# Altium schematic symbol library Video.SchLib: 38 symbols
Pins are listed as number, name and electrical type; pins without a type are passive.

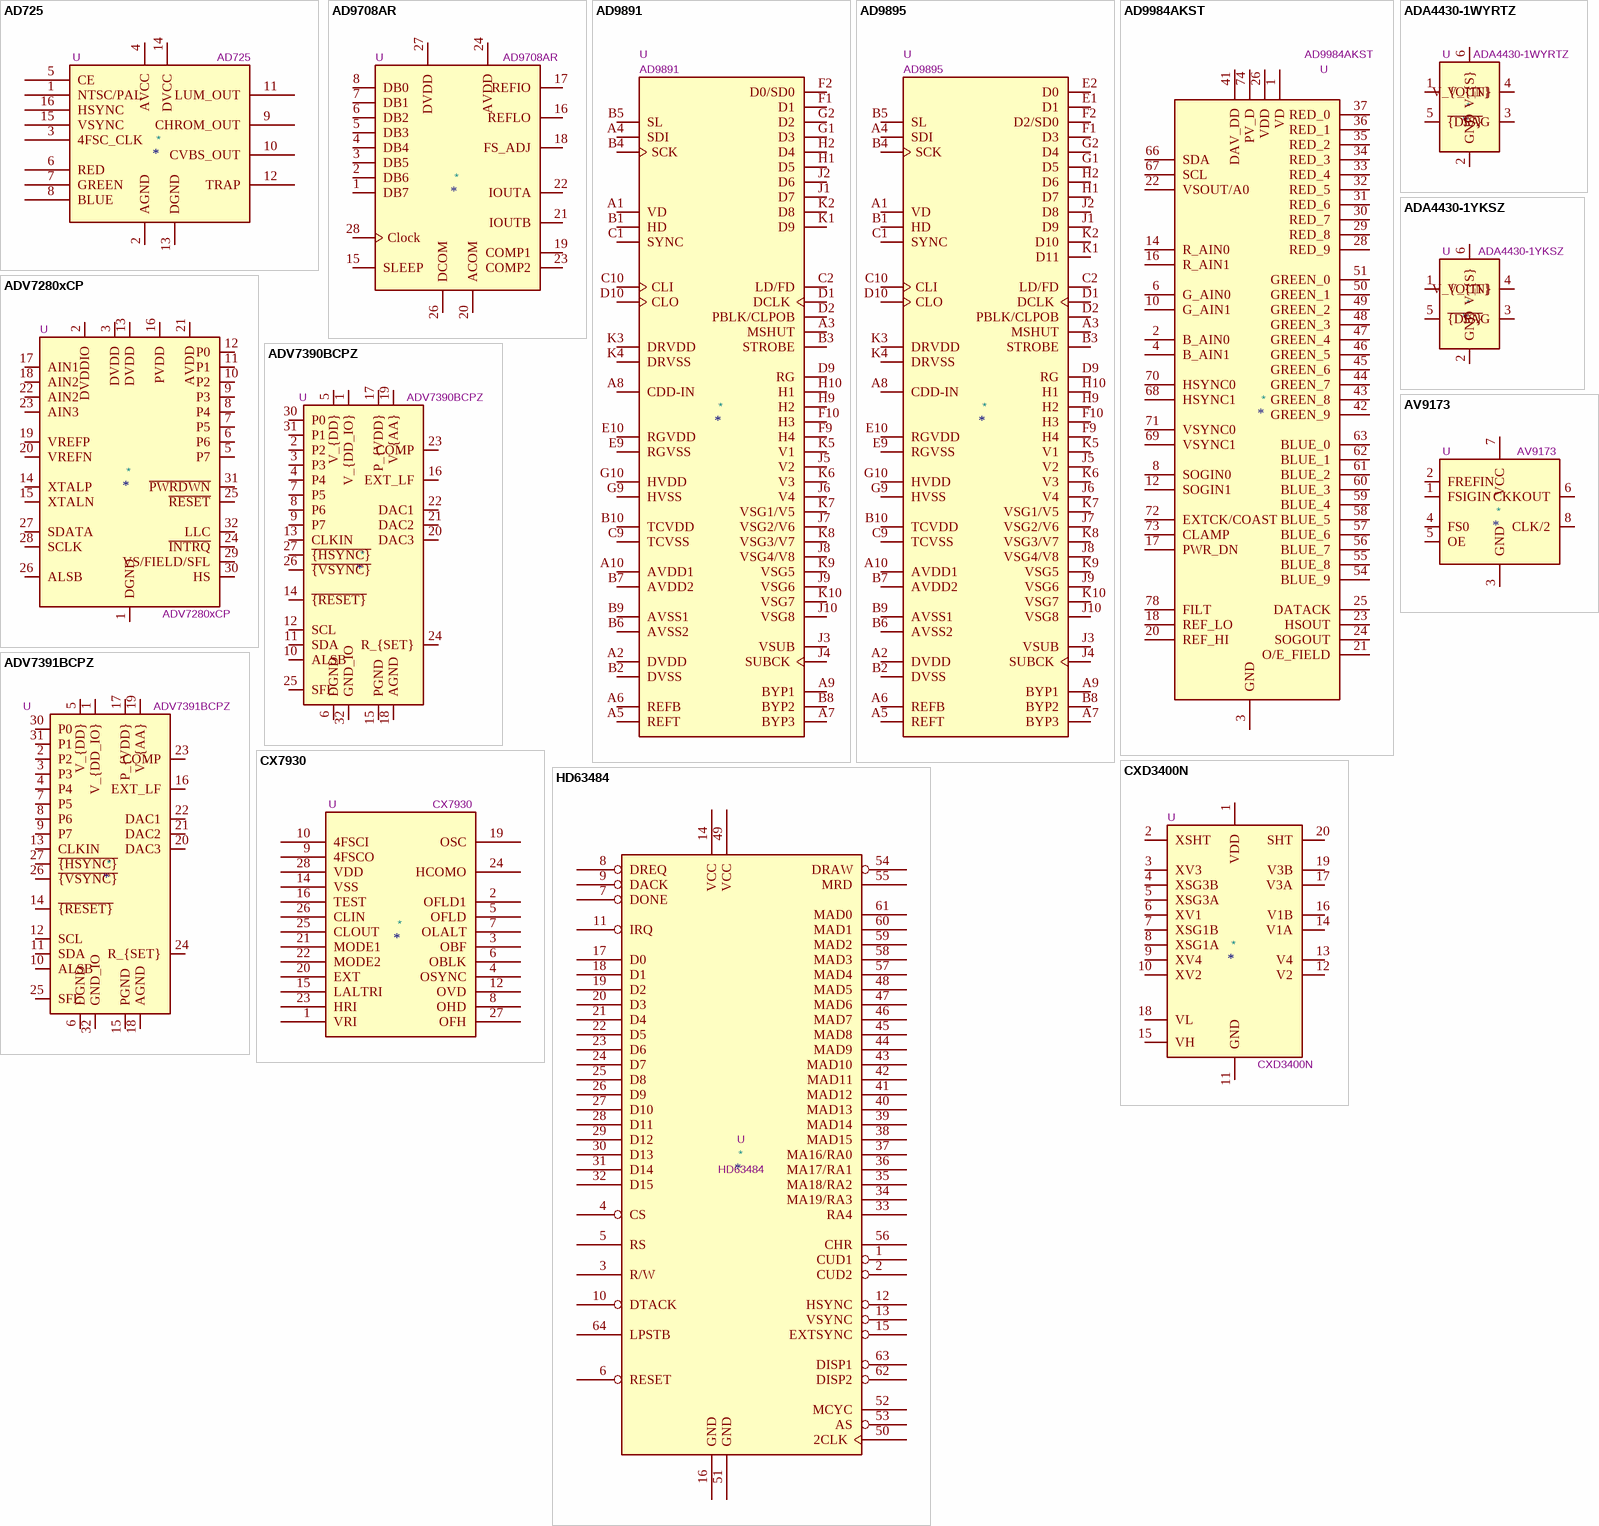
[diagram p0: symbols AD725 to HD63484]

## AD725
designator *  value AD725  Reference: U
ki_keywords: Video; ki_description: Low Cost RGB to NTSC/PAL Encoder with Luma Trap Port; ki_fp_filters: SOIC*7.5x10.3mm*P1.27mm*; Footprint: Package_SO:SOIC-16W_7.5x10.3mm_P1.27mm; Datasheet: https://www.analog.com/media/en/technical-documentation/data-sheets/AD725.pdf
pins: 1 NTSC/PAL, 2 AGND, 3 4FSC_CLK, 4 AVCC, 5 CE, 6 RED, 7 GREEN, 8 BLUE, 9 CHROM_OUT, 10 CVBS_OUT, 11 LUM_OUT, 12 TRAP, 13 DGND, 14 DVCC, 15 VSYNC, 16 HSYNC

## AD9708AR
designator *  value AD9708AR  Reference: U
ki_keywords: DAC CNA VIDEO; ki_description: Video DAC (32 MHz), SOIC/TSSOP-28; Datasheet: https://www.analog.com/media/en/technical-documentation/data-sheets/AD9708.pdf
pins: 1 DB7, 2 DB6, 3 DB5, 4 DB4, 5 DB3, 6 DB2, 7 DB1, 8 DB0, 15 SLEEP, 16 REFLO, 17 REFIO, 18 FS_ADJ, 19 COMP1, 20 ACOM, 21 IOUTB, 22 IOUTA, 23 COMP2, 24 AVDD, 26 DCOM, 27 DVDD, 28 Clock

## AD9891
designator *  value AD9891  Reference: U
ki_keywords: CCD Signal Processor; ki_description: CCD Signal Processor, 20MHz 10bits, CSPBGA-64; ki_fp_filters: BGA*9.0x9.0mm*Layout10x10*P0.8mm*; Footprint: Package_BGA:BGA-64_9.0x9.0mm_Layout10x10_P0.8mm; Datasheet: https://www.analog.com/static/imported-files/data_sheets/AD9891_9895.pdf
pins: A1 VD, A2 DVDD, A3 MSHUT, A4 SDI, A5 REFT, A6 REFB, A7 BYP3, A8 CDD-IN, A9 BYP1, A10 AVDD1, B1 HD, B2 DVSS, B3 STROBE, B4 SCK, B5 SL, B6 AVSS2, B7 AVDD2, B8 BYP2, B9 AVSS1, B10 TCVDD, C1 SYNC, C2 LD/FD, C9 TCVSS, C10 CLI, D1 DCLK, D2 PBLK/CLPOB, D9 RG, D10 CLO, E9 RGVSS, E10 RGVDD, F1 D1, F2 D0/SD0, F9 H4, F10 H3, G1 D3, G2 D2, G9 HVSS, G10 HVDD, H1 D5, H2 D4, H9 H2, H10 H1, J1 D7, J2 D6, J3 VSUB, J4 SUBCK, J5 V2, J6 V4, J7 VSG2/V6, J8 VSG4/V8, J9 VSG6, J10 VSG8, K1 D9, K2 D8, K3 DRVDD, K4 DRVSS, K5 V1, K6 V3, K7 VSG1/V5, K8 VSG3/V7, K9 VSG5, K10 VSG7

## AD9895
designator *  value AD9895  Reference: U
ki_keywords: CCD Signal Processor; ki_description: CCD Signal Processor, 30MHz 12bits, CSPBGA-64; ki_fp_filters: BGA*9.0x9.0mm*Layout10x10*P0.8mm*; Footprint: Package_BGA:BGA-64_9.0x9.0mm_Layout10x10_P0.8mm; Datasheet: https://www.analog.com/static/imported-files/data_sheets/AD9891_9895.pdf
pins: A1 VD, A2 DVDD, A3 MSHUT, A4 SDI, A5 REFT, A6 REFB, A7 BYP3, A8 CDD-IN, A9 BYP1, A10 AVDD1, B1 HD, B2 DVSS, B3 STROBE, B4 SCK, B5 SL, B6 AVSS2, B7 AVDD2, B8 BYP2, B9 AVSS1, B10 TCVDD, C1 SYNC, C2 LD/FD, C9 TCVSS, C10 CLI, D1 DCLK, D2 PBLK/CLPOB, D9 RG, D10 CLO, E1 D1, E2 D0, E9 RGVSS, E10 RGVDD, F1 D3, F2 D2/SD0, F9 H4, F10 H3, G1 D5, G2 D4, G9 HVSS, G10 HVDD, H1 D7, H2 D6, H9 H2, H10 H1, J1 D9, J2 D8, J3 VSUB, J4 SUBCK, J5 V2, J6 V4, J7 VSG2/V6, J8 VSG4/V8, J9 VSG6, J10 VSG8, K1 D11, K2 D10, K3 DRVDD, K4 DRVSS, K5 V1, K6 V3, K7 VSG1/V5, K8 VSG3/V7, K9 VSG5, K10 VSG7

## AD9984AKST
designator *  value AD9984AKST  Reference: U
ki_keywords: 10bit video display interface; ki_description: High Performance 10-Bit Display Interface 140/170MSPS LQFP; ki_fp_filters: LQFP*; Footprint: Package_QFP:LQFP-80_14x14mm_P0.65mm; Datasheet: http://www.analog.com/media/en/technical-documentation/data-sheets/AD9984A.pdf
pins: 1 VD, 2 B_AIN0, 3 GND, 4 B_AIN1, 5 VD hidden, 6 G_AIN0, 7 GND hidden, 8 SOGIN0, 9 VD hidden, 10 G_AIN1, 11 GND hidden, 12 SOGIN1, 13 VD hidden, 14 R_AIN0, 15 GND hidden, 16 R_AIN1, 17 PWR_DN, 18 REF_LO, 19 NC hidden, 20 REF_HI, 21 O/E_FIELD, 22 VSOUT/A0, 23 HSOUT, 24 SOGOUT, 25 DATACK, 26 VDD, 27 GND hidden, 28 RED_9, 29 RED_8, 30 RED_7, 31 RED_6, 32 RED_5, 33 RED_4, 34 RED_3, 35 RED_2, 36 RED_1, 37 RED_0, 38 VDD hidden, 39 GND hidden, 40 GND hidden, 41 DAV_DD, 42 GREEN_9, 43 GREEN_8, 44 GREEN_7, 45 GREEN_6, 46 GREEN_5, 47 GREEN_4, 48 GREEN_3, 49 GREEN_2, 50 GREEN_1, 51 GREEN_0, 52 VDD hidden, 53 GND hidden, 54 BLUE_9, 55 BLUE_8, 56 BLUE_7, 57 BLUE_6, 58 BLUE_5, 59 BLUE_4, 60 BLUE_3, 61 BLUE_2, 62 BLUE_1, 63 BLUE_0, 64 VDD hidden, 65 GND hidden, 66 SDA, 67 SCL, 68 HSYNC1, 69 VSYNC1, 70 HSYNC0, 71 VSYNC0, 72 EXTCK/COAST, 73 CLAMP, 74 PV_D, 75 GND hidden, 76 PV_D hidden, 77 GND hidden, 78 FILT, 79 PV_D hidden, 80 GND hidden
1 alternate drawing of the same symbol

## ADA4430-1WYRTZ
designator *  value ADA4430-1WYRTZ  Reference: U
ki_keywords: Video Filter; ki_description: Ultralow Power, Video Filter, Power-Down, SOT-23; ki_fp_filters: SOT?23*; Footprint: Package_TO_SOT_SMD:SOT-23-6; Datasheet: https://www.analog.com/media/en/technical-documentation/data-sheets/ADA4430-1.pdf
pins: 1 V_{IN}, 2 GND, 3 SAG, 4 V_{OUT}, 5 ~{{DIS}}, 6 V_{S}

## ADA4430-1YKSZ
designator *  value ADA4430-1YKSZ  Reference: U
ki_keywords: Video Filter; ki_description: Ultralow Power, Video Filter, Power-Down, SOT-363; ki_fp_filters: SOT?363*; Footprint: Package_TO_SOT_SMD:SOT-363_SC-70-6; Datasheet: https://www.analog.com/media/en/technical-documentation/data-sheets/ADA4430-1.pdf
pins: 1 V_{IN}, 2 GND, 3 SAG, 4 V_{OUT}, 5 ~{{DIS}}, 6 V_{S}

## ADV7280xCP
designator *  value ADV7280xCP  Reference: U
ki_keywords: video decoder; ki_description: 10-Bit, 4x Oversampled SDTV Video Decoder with Deinterlacer, LFCSP-32; ki_fp_filters: LFCSP*1EP*5x5mm*P0.5mm*; Footprint: Package_CSP:LFCSP-32-1EP_5x5mm_P0.5mm_EP3.6x3.6mm; Datasheet: https://www.analog.com/media/en/technical-documentation/data-sheets/ADV7280.PDF
pins: 1 DGND, 2 DVDDIO, 3 DVDD, 4 DGND hidden, 5 P7, 6 P6, 7 P5, 8 P4, 9 P3, 10 P2, 11 P1, 12 P0, 13 DVDD, 14 XTALP, 15 XTALN, 16 PVDD, 17 AIN1, 18 AIN2, 19 VREFP, 20 VREFN, 21 AVDD, 22 AIN2, 23 AIN3, 24 ~{INTRQ}, 25 ~{RESET}, 26 ALSB, 27 SDATA, 28 SCLK, 29 VS/FIELD/SFL, 30 HS, 31 ~{PWRDWN}, 32 LLC, 33 DGND hidden

## ADV7390BCPZ
designator *  value ADV7390BCPZ  Reference: U
ki_keywords: Video Encoder; ki_description: 10-Bit SD/HD Video Encoder, Macrovision Antitaping, LFCSP-32; ki_fp_filters: LFCSP*1EP*5x5mm*P0.5mm*; Footprint: Package_CSP:LFCSP-32-1EP_5x5mm_P0.5mm_EP3.1x3.1mm; Datasheet: https://www.analog.com/media/en/technical-documentation/data-sheets/ADV7390_7391_7392_7393.pdf
pins: 1 V_{DD_IO}, 2 P2, 3 P3, 4 P4, 5 V_{DD}, 6 DGND, 7 P5, 8 P6, 9 P7, 10 ALSB, 11 SDA, 12 SCL, 13 CLKIN, 14 ~{{RESET}}, 15 PGND, 16 EXT_LF, 17 P_{VDD}, 18 AGND, 19 V_{AA}, 20 DAC3, 21 DAC2, 22 DAC1, 23 COMP, 24 R_{SET}, 25 SFL, 26 ~{{VSYNC}}, 27 ~{{HSYNC}}, 28 V_{DD} hidden, 29 DGND hidden, 30 P0, 31 P1, 32 GND_IO, 33 AGND hidden

## ADV7391BCPZ
designator *  value ADV7391BCPZ  Reference: U
ki_keywords: Video Encoder; ki_description: 10-Bit SD/HD Video Encoder, LFCSP-32; ki_fp_filters: LFCSP*1EP*5x5mm*P0.5mm*; Footprint: Package_CSP:LFCSP-32-1EP_5x5mm_P0.5mm_EP3.1x3.1mm; Datasheet: https://www.analog.com/media/en/technical-documentation/data-sheets/ADV7390_7391_7392_7393.pdf
pins: 1 V_{DD_IO}, 2 P2, 3 P3, 4 P4, 5 V_{DD}, 6 DGND, 7 P5, 8 P6, 9 P7, 10 ALSB, 11 SDA, 12 SCL, 13 CLKIN, 14 ~{{RESET}}, 15 PGND, 16 EXT_LF, 17 P_{VDD}, 18 AGND, 19 V_{AA}, 20 DAC3, 21 DAC2, 22 DAC1, 23 COMP, 24 R_{SET}, 25 SFL, 26 ~{{VSYNC}}, 27 ~{{HSYNC}}, 28 V_{DD} hidden, 29 DGND hidden, 30 P0, 31 P1, 32 GND_IO, 33 AGND hidden

## AV9173
designator *  value AV9173  Reference: U
ki_keywords: video pll; ki_description: Video Genlock PLL; Datasheet: http://www.ibselectronics.com/ibsstore/datasheet/Others/AV9173-01CN08.pdf
pins: 1 FSIGIN, 2 FREFIN, 3 GND, 4 FS0, 5 OE, 6 CKKOUT, 7 VCC, 8 CLK/2

## CX7930
designator *  value CX7930  Reference: U
pins: 1 VRI, 2 OFLD1, 3 OBF, 4 OSYNC, 5 OFLD, 6 OBLK, 7 OLALT, 8 OHD, 9 4FSCO, 10 4FSCI, 12 OVD, 14 VSS, 15 LALTRI, 16 TEST, 19 OSC, 20 EXT, 21 MODE1, 22 MODE2, 23 HRI, 24 HCOMO, 25 CLOUT, 26 CLIN, 27 OFH, 28 VDD

## CXD3400N
designator *  value CXD3400N  Reference: U
ki_keywords: CCD Clock Driver; ki_description: 6-channel Vertical Clock Driver for CCD Image Sensor, SSOP-20; ki_fp_filters: SSOP*; Datasheet: video\cxd3400n.pdf
pins: 1 VDD, 2 XSHT, 3 XV3, 4 XSG3B, 5 XSG3A, 6 XV1, 7 XSG1B, 8 XSG1A, 9 XV4, 10 XV2, 11 GND, 12 V2, 13 V4, 14 V1A, 15 VH, 16 V1B, 17 V3A, 18 VL, 19 V3B, 20 SHT

## HD63484
designator *  value HD63484  Reference: U
pins: 1 CUD1, 2 CUD2, 3 R/W, 4 CS, 5 RS, 6 RESET, 7 DONE, 8 DREQ, 9 DACK, 10 DTACK, 11 IRQ, 12 HSYNC, 13 VSYNC, 14 VCC, 15 EXTSYNC, 16 GND, 17 D0, 18 D1, 19 D2, 20 D3, 21 D4, 22 D5, 23 D6, 24 D7, 25 D8, 26 D9, 27 D10, 28 D11, 29 D12, 30 D13, 31 D14, 32 D15, 33 RA4, 34 MA19/RA3, 35 MA18/RA2, 36 MA17/RA1, 37 MA16/RA0, 38 MAD15, 39 MAD14, 40 MAD13, 41 MAD12, 42 MAD11, 43 MAD10, 44 MAD9, 45 MAD8, 46 MAD7, 47 MAD6, 48 MAD5, 49 VCC, 50 2CLK, 51 GND, 52 MCYC, 53 AS, 54 DRAW, 55 MRD, 56 CHR, 57 MAD4, 58 MAD3, 59 MAD2, 60 MAD1, 61 MAD0, 62 DISP2, 63 DISP1, 64 LPSTB

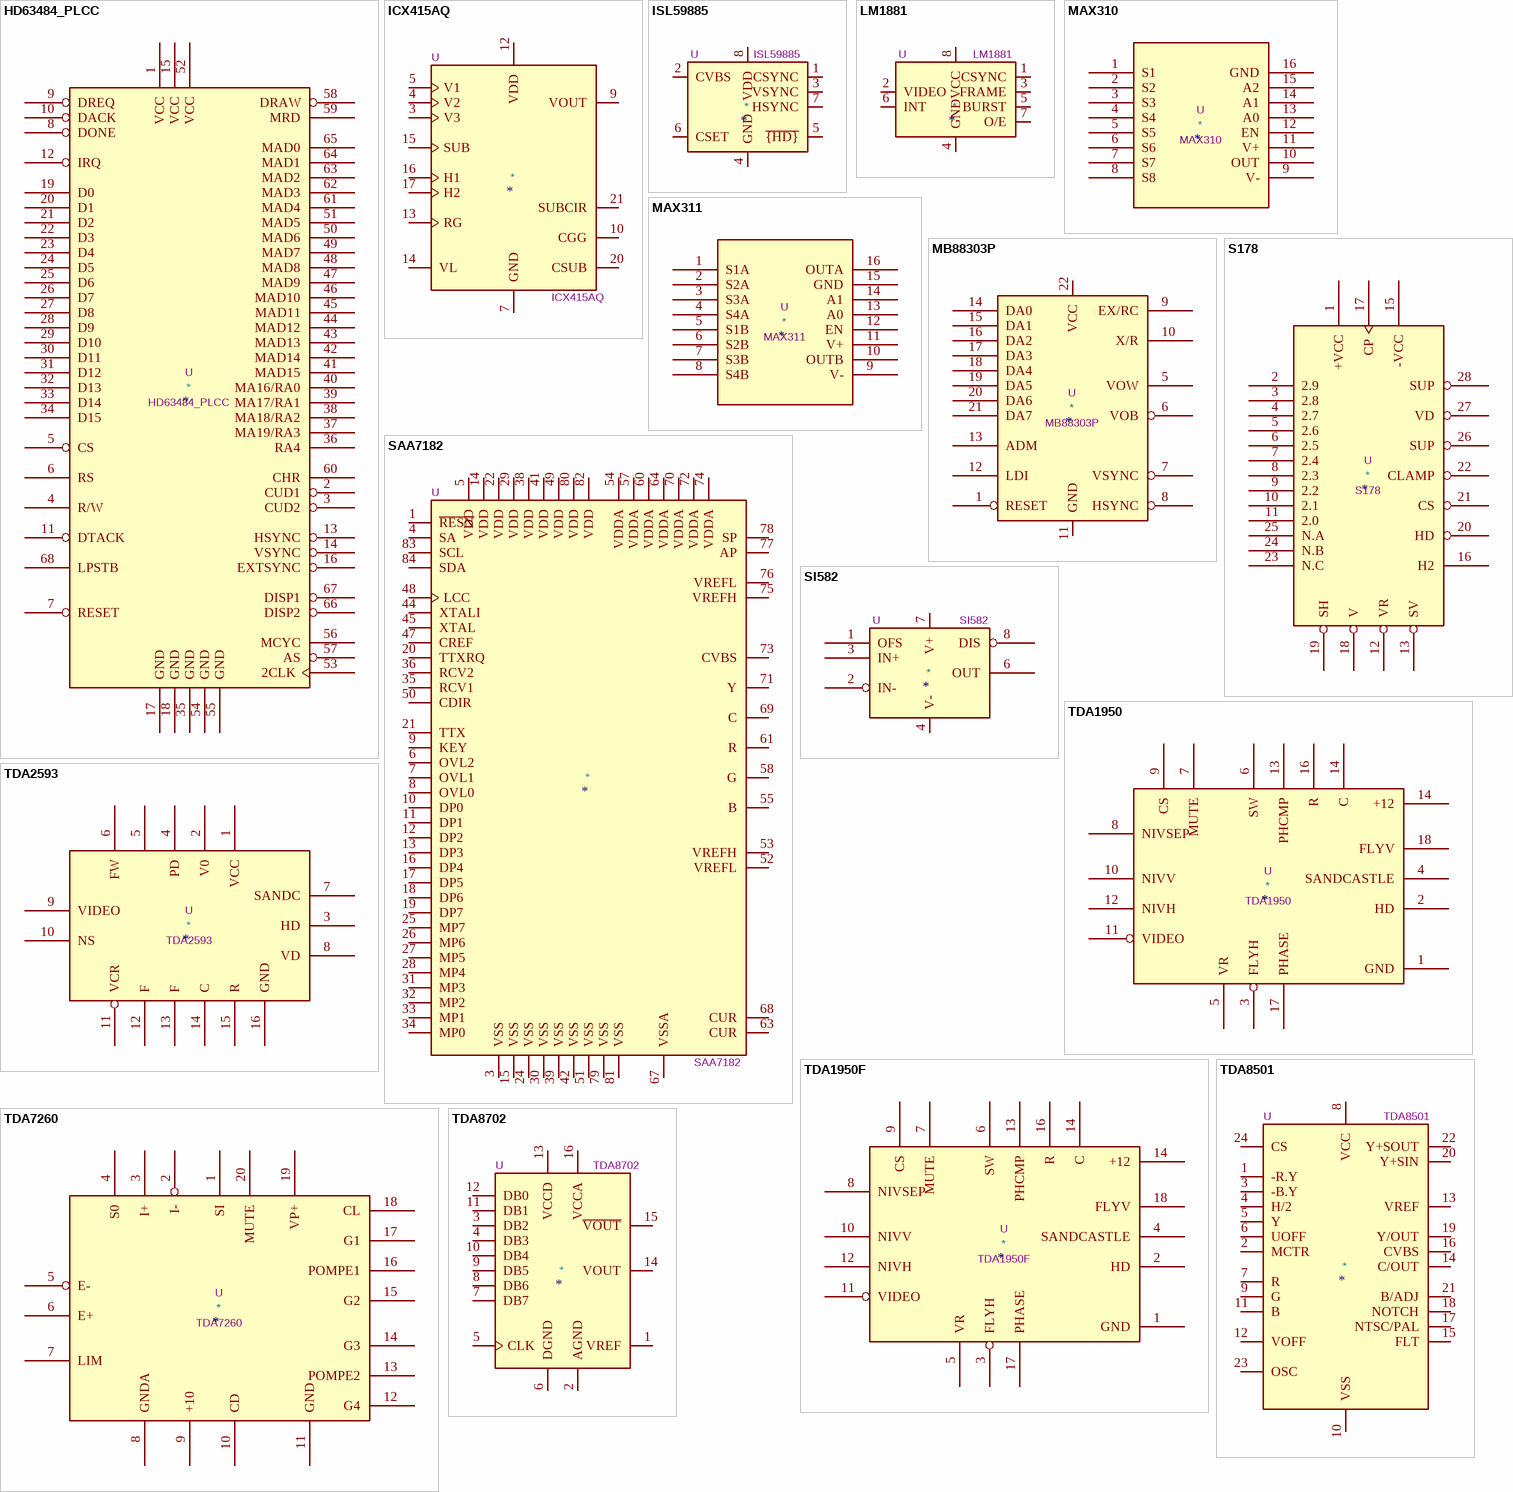
[diagram p1: symbols HD63484_PLCC to TDA8702]

## HD63484_PLCC
designator *  value HD63484_PLCC  Reference: U
pins: 1 VCC, 2 CUD1, 3 CUD2, 4 R/W, 5 CS, 6 RS, 7 RESET, 8 DONE, 9 DREQ, 10 DACK, 11 DTACK, 12 IRQ, 13 HSYNC, 14 VSYNC, 15 VCC, 16 EXTSYNC, 17 GND, 18 GND, 19 D0, 20 D1, 21 D2, 22 D3, 23 D4, 24 D5, 25 D6, 26 D7, 27 D8, 28 D9, 29 D10, 30 D11, 31 D12, 32 D13, 33 D14, 34 D15, 35 GND, 36 RA4, 37 MA19/RA3, 38 MA18/RA2, 39 MA17/RA1, 40 MA16/RA0, 41 MAD15, 42 MAD14, 43 MAD13, 44 MAD12, 45 MAD11, 46 MAD10, 47 MAD9, 48 MAD8, 49 MAD7, 50 MAD6, 51 MAD5, 52 VCC, 53 2CLK, 54 GND, 55 GND, 56 MCYC, 57 AS, 58 DRAW, 59 MRD, 60 CHR, 61 MAD4, 62 MAD3, 63 MAD2, 64 MAD1, 65 MAD0, 66 DISP2, 67 DISP1, 68 LPSTB

## ICX415AQ
designator *  value ICX415AQ  Reference: U
ki_keywords: CCD B/W Image Sensor; ki_description: Diagonal 8mm B/W Progressive Scan CCD Image Sensor with Square Pixel, CERDIP-22
pins: 3 V3, 4 V2, 5 V1, 7 GND, 9 VOUT, 10 CGG, 12 VDD, 13 RG, 14 VL, 15 SUB, 16 H1, 17 H2, 20 CSUB, 21 SUBCIR

## ISL59885
designator *  value ISL59885  Reference: U
ki_keywords: video sync separator csync hsync vsync; ki_description: Sync Separator for HD and SD Video, SOIC-8; ki_fp_filters: SOIC*3.9x4.9mm*P1.27mm*; Footprint: Package_SO:SOIC-8_3.9x4.9mm_P1.27mm; Datasheet: https://www.renesas.com/us/en/document/dst/isl59885-datasheet?r=533081
pins: 1 CSYNC, 2 CVBS, 3 VSYNC, 4 GND, 5 ~{{HD}}, 6 CSET, 7 HSYNC, 8 VDD

## LM1881
designator *  value LM1881  Reference: U
pins: 1 CSYNC, 2 VIDEO, 3 FRAME, 4 GND, 5 BURST, 6 INT, 7 O/E, 8 VCC

## MAX310
designator *  value MAX310  Reference: U
ki_keywords: video rf; ki_description: 8-Channel CMOS RF Video Multiplexer; Datasheet: https://datasheets.maximintegrated.com/en/ds/MAX310-MAX311.pdf
pins: 1 S1, 2 S2, 3 S3, 4 S4, 5 S5, 6 S6, 7 S7, 8 S8, 9 V-, 10 OUT, 11 V+, 12 EN, 13 A0, 14 A1, 15 A2, 16 GND

## MAX311
designator *  value MAX311  Reference: U
ki_keywords: video rf; ki_description: 8-Channel CMOS RF Video Multiplexer; Datasheet: https://datasheets.maximintegrated.com/en/ds/MAX310-MAX311.pdf
pins: 1 S1A, 2 S2A, 3 S3A, 4 S4A, 5 S1B, 6 S2B, 7 S3B, 8 S4B, 9 V-, 10 OUTB, 11 V+, 12 EN, 13 A0, 14 A1, 15 GND, 16 OUTA

## MB88303P
designator *  value MB88303P  Reference: U
pins: 1 RESET, 5 VOW, 6 VOB, 7 VSYNC, 8 HSYNC, 9 EX/RC, 10 X/R, 11 GND, 12 LDI, 13 ADM, 14 DA0, 15 DA1, 16 DA2, 17 DA3, 18 DA4, 19 DA5, 20 DA6, 21 DA7, 22 VCC

## S178
designator *  value S178  Reference: U
pins: 1 +VCC, 2 2.9, 3 2.8, 4 2.7, 5 2.6, 6 2.5, 7 2.4, 8 2.3, 9 2.2, 10 2.1, 11 2.0, 12 VR, 13 SV, 15 -VCC, 16 H2, 17 CP, 18 V, 19 SH, 20 HD, 21 CS, 22 CLAMP, 23 N.C, 24 N.B, 25 N.A, 26 SUP, 27 VD, 28 SUP

## SAA7182
designator *  value SAA7182  Reference: U
ki_keywords: Video Encoder; ki_description: Digital Video Encoder, Obsolete; Datasheet: http://rcl-radio.ru/wp-content/uploads/2014/11/SAA7182.pdf
pins: 1 ~{RESN}, 3 VSS, 4 SA, 5 VDD, 6 OVL2, 7 OVL1, 8 OVL0, 9 KEY, 10 DP0, 11 DP1, 12 DP2, 13 DP3, 14 VDD, 15 VSS, 16 DP4, 17 DP5, 18 DP6, 19 DP7, 20 TTXRQ, 21 TTX, 22 VDD, 24 VSS, 25 MP7, 26 MP6, 27 MP5, 28 MP4, 29 VDD, 30 VSS, 31 MP3, 32 MP2, 33 MP1, 34 MP0, 35 RCV1, 36 RCV2, 38 VDD, 39 VSS, 41 VDD, 42 VSS, 44 XTALI, 45 XTAL, 47 CREF, 48 LCC, 49 VDD, 50 CDIR, 51 VSS, 52 VREFL, 53 VREFH, 54 VDDA, 55 B, 57 VDDA, 58 G, 60 VDDA, 61 R, 63 CUR, 64 VDDA, 67 VSSA, 68 CUR, 69 C, 70 VDDA, 71 Y, 72 VDDA, 73 CVBS, 74 VDDA, 75 VREFH, 76 VREFL, 77 AP, 78 SP, 79 VSS, 80 VDD, 81 VSS, 82 VDD, 83 SCL, 84 SDA

## SI582
designator *  value SI582  Reference: U
pins: 1 OFS, 2 IN-, 3 IN+, 4 V-, 6 OUT, 7 V+, 8 DIS

## TDA1950
designator *  value TDA1950  Reference: U
pins: 1 GND, 2 HD, 3 FLYH, 4 SANDCASTLE, 5 VR, 6 SW, 7 MUTE, 8 NIVSEP, 9 CS, 10 NIVV, 11 VIDEO, 12 NIVH, 13 PHCMP, 14 +12, 14 C, 16 R, 17 PHASE, 18 FLYV

## TDA1950F
designator *  value TDA1950F  Reference: U
pins: 1 GND, 2 HD, 3 FLYH, 4 SANDCASTLE, 5 VR, 6 SW, 7 MUTE, 8 NIVSEP, 9 CS, 10 NIVV, 11 VIDEO, 12 NIVH, 13 PHCMP, 14 +12, 14 C, 16 R, 17 PHASE, 18 FLYV

## TDA2593
designator *  value TDA2593  Reference: U
pins: 1 VCC, 2 V0, 3 HD, 4 PD, 5, 6 FW, 7 SANDC, 8 VD, 9 VIDEO, 10 NS, 11 VCR, 12 F, 13 F, 14 C, 15 R, 16 GND

## TDA7260
designator *  value TDA7260  Reference: U
pins: 1 SI, 2 I-, 3 I+, 4 S0, 5 E-, 6 E+, 7 LIM, 8 GNDA, 9 +10, 10 CD, 11 GND, 12 G4, 13 POMPE2, 14 G3, 15 G2, 16 POMPE1, 17 G1, 18 CL, 19 VP+, 20 MUTE

## TDA8501
designator *  value TDA8501  Reference: U
ki_keywords: Video Encoder; ki_description: PAL/NTSC Encoder, RGB or Y/Y-R/Y-B Inputs, DIP/SOIC-20; ki_fp_filters: DIP* PDIP* SOIC*; Datasheet: https://assets.nexperia.com/documents/data-sheet/TDA8501.pdf
pins: 1 -R.Y, 2 MCTR, 3 -B.Y, 4 H/2, 5 Y, 6 UOFF, 7 R, 8 VCC, 9 G, 10 VSS, 11 B, 12 VOFF, 13 VREF, 14 C/OUT, 15 FLT, 16 CVBS, 17 NTSC/PAL, 18 NOTCH, 19 Y/OUT, 20 Y+SIN, 21 B/ADJ, 22 Y+SOUT, 23 OSC, 24 CS

## TDA8702
designator *  value TDA8702  Reference: U
ki_keywords: DAC CNA VIDEO; ki_description: 8bit Video DAC (32 MHz), DIP-16; ki_fp_filters: DIP* PDIP* SO* SOIC*; Datasheet: philips/tda8702.pdf
pins: 1 VREF, 2 AGND, 3 DB2, 4 DB3, 5 CLK, 6 DGND, 7 DB7, 8 DB6, 9 DB5, 10 DB4, 11 DB1, 12 DB0, 13 VCCD, 14 VOUT, 15 ~{VOUT}, 16 VCCA

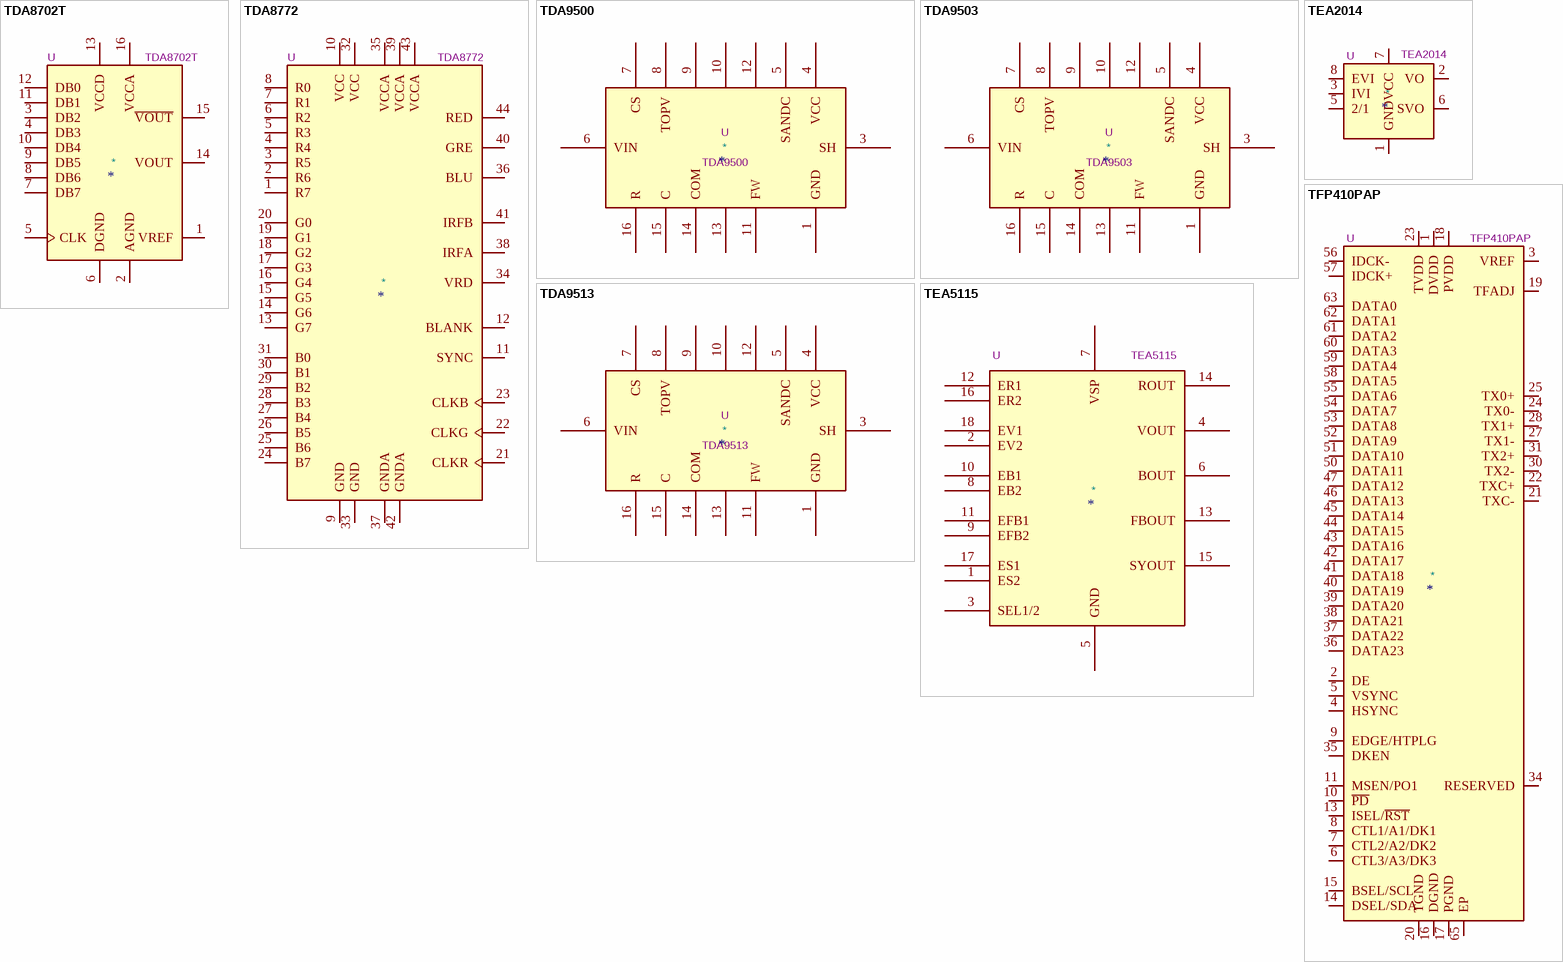
[diagram p2: symbols TDA8702T to TFP410PAP]

## TDA8702T
designator *  value TDA8702T  Reference: U
ki_keywords: DAC CNA VIDEO; ki_description: 8bit Video DAC (32 MHz), SOIC-16; ki_fp_filters: DIP* PDIP* SO* SOIC*; Datasheet: philips/tda8702.pdf
pins: 1 VREF, 2 AGND, 3 DB2, 4 DB3, 5 CLK, 6 DGND, 7 DB7, 8 DB6, 9 DB5, 10 DB4, 11 DB1, 12 DB0, 13 VCCD, 14 VOUT, 15 ~{VOUT}, 16 VCCA

## TDA8772
designator *  value TDA8772  Reference: U
ki_keywords: Video DAC Colour 8bit; ki_description: Triple 8bit Video DAC, QFP-44; ki_fp_filters: QFP*; Datasheet: http://www.pa0qy.nl/pdf/TDA8772.PDF
pins: 1 R7, 2 R6, 3 R5, 4 R4, 5 R3, 6 R2, 7 R1, 8 R0, 9 GND, 10 VCC, 11 SYNC, 12 BLANK, 13 G7, 14 G6, 15 G5, 16 G4, 17 G3, 18 G2, 19 G1, 20 G0, 21 CLKR, 22 CLKG, 23 CLKB, 24 B7, 25 B6, 26 B5, 27 B4, 28 B3, 29 B2, 30 B1, 31 B0, 32 VCC, 33 GND, 34 VRD, 35 VCCA, 36 BLU, 37 GNDA, 38 IRFA, 39 VCCA, 40 GRE, 41 IRFB, 42 GNDA, 43 VCCA, 44 RED

## TDA9500
designator *  value TDA9500  Reference: U
pins: 1 GND, 3 SH, 4 VCC, 5 SANDC, 6 VIN, 7 CS, 8 TOPV, 9, 10, 11 FW, 12, 13, 14 COM, 15 C, 16 R

## TDA9503
designator *  value TDA9503  Reference: U
pins: 1 GND, 3 SH, 4 VCC, 5 SANDC, 6 VIN, 7 CS, 8 TOPV, 9, 10, 11 FW, 12, 13, 14 COM, 15 C, 16 R

## TDA9513
designator *  value TDA9513  Reference: U
pins: 1 GND, 3 SH, 4 VCC, 5 SANDC, 6 VIN, 7 CS, 8 TOPV, 9, 10, 11 FW, 12, 13, 14 COM, 15 C, 16 R

## TEA2014
designator *  value TEA2014  Reference: U
ki_keywords: Video switching circuite for TV; ki_description: Video switching circuite for TV, DIP-8; ki_fp_filters: DIP*W7.62mm*; Footprint: Package_DIP:DIP-8_W7.62mm; Datasheet: http://pdf1.alldatasheet.com/datasheet-pdf/view/123244/STMICROELECTRONICS/TEA2014.html
pins: 1 GND, 2 VO, 3 IVI, 4 NC hidden, 5 2/1, 6 SVO, 7 VCC, 8 EVI

## TEA5115
designator *  value TEA5115  Reference: U
pins: 1 ES2, 2 EV2, 3 SEL1/2, 4 VOUT, 5 GND, 6 BOUT, 7 VSP, 8 EB2, 9 EFB2, 10 EB1, 11 EFB1, 12 ER1, 13 FBOUT, 14 ROUT, 15 SYOUT, 16 ER2, 17 ES1, 18 EV1

## TFP410PAP
designator *  value TFP410PAP  Reference: U
ki_keywords: DVI Encoder Driver; ki_description: Digital Visual Interface Compliant PanelBus Digital Transmitter, HTQFP-64; ki_fp_filters: HTQFP*1EP*10x10mm*P0.5mm*; Footprint: Package_QFP:HTQFP-64-1EP_10x10mm_P0.5mm_EP8x8mm_Mask4.4x4.4mm_ThermalVias; Datasheet: http://www.ti.com/lit/ds/symlink/tfp410.pdf
pins: 1 DVDD, 2 DE, 3 VREF, 4 HSYNC, 5 VSYNC, 6 CTL3/A3/DK3, 7 CTL2/A2/DK2, 8 CTL1/A1/DK1, 9 EDGE/HTPLG, 10 ~{PD}, 11 MSEN/PO1, 12 DVDD hidden, 13 ISEL/~{RST}, 14 DSEL/SDA, 15 BSEL/SCL, 16 DGND, 17 PGND, 18 PVDD, 19 TFADJ, 20 TGND, 21 TXC-, 22 TXC+, 23 TVDD, 24 TX0-, 25 TX0+, 26 TGND hidden, 27 TX1-, 28 TX1+, 29 TVDD hidden, 30 TX2-, 31 TX2+, 32 TGND hidden, 33 DVDD hidden, 34 RESERVED, 35 DKEN, 36 DATA23, 37 DATA22, 38 DATA21, 39 DATA20, 40 DATA19, 41 DATA18, 42 DATA17, 43 DATA16, 44 DATA15, 45 DATA14, 46 DATA13, 47 DATA12, 48 DGND hidden, 49 NC hidden, 50 DATA11, 51 DATA10, 52 DATA9, 53 DATA8, 54 DATA7, 55 DATA6, 56 IDCK-, 57 IDCK+, 58 DATA5, 59 DATA4, 60 DATA3, 61 DATA2, 62 DATA1, 63 DATA0, 64 DGND hidden, 65 EP